# Altium schematic symbol library Connectors.SchLib: 4 symbols
Pins are listed as number, name and electrical type; pins without a type are passive.

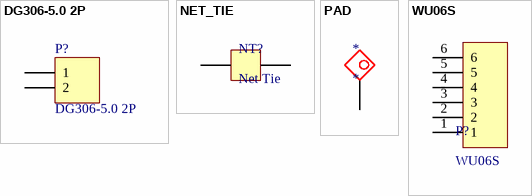
[diagram p0: symbols DG306-5.0 2P to WU06S]

## DG306-5.0 2P
designator P?
Manufacturer: DEGSON; PartNumber: DG306-5.0-02P-12-00A(H); Voltage: 300V; Current: 10A; LatestRevisionDate: 17-Jul-2002; LatestRevisionNote: Re-released for DXP Platform.; Publisher: Altium Limited; Pins: 2
signal-integrity model Connector
footprint DG306-5.0 2P
pins: 1, 2

## NET_TIE
designator NT?, comment Net Tie  (net tie, no BOM)
SMD Solder Jumper
footprint JMP (SMD Solder Jumper)
pins: 1, 2

## PAD
designator *
footprint TEST_SMD (Round 1.5mm SMD test pad)
footprint TEST_PTH_SQUARE (Square 1.5mm PTH test pad)
pins: 1

## WU06S
designator P?
footprint WU06S
signal-integrity model WU06S (Model WU06S)
pins: 1, 2, 3, 4, 5, 6